# EAGLE library part DIL42 (library ic-package OPL4 10x20)
Dual In Line
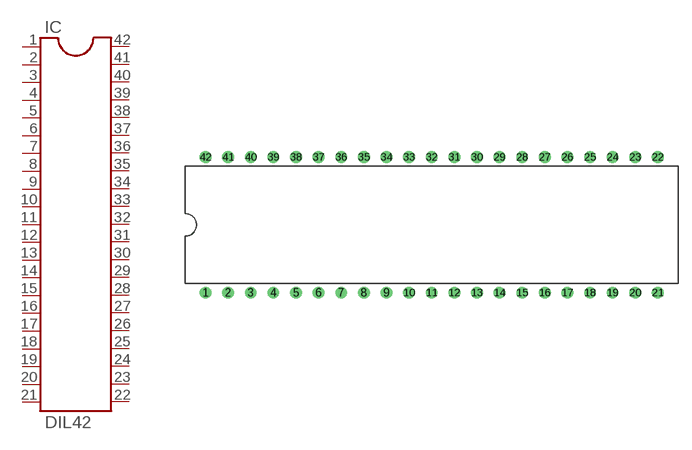
[diagram p17: symbol with the pads of DIL42; footprint DIL42]

Designator prefix IC

## DIL42  [DIL42]
1  MA19  pas
2  MA18  pas
3  MA8  pas
4  MA7  pas
5  MA6  pas
6  MA5  pas
7  MA4  pas
8  MA3  pas
9  MA2  pas
10  MA1  pas
11  MCS0  pas
12  VSS  pas
13  MRD  pas
14  MD0  pas
15  15  pas
16  MD1  pas
17  17  pas
18  MD2  pas
19  19  pas
20  MD3  pas
21  21  pas
22  VDD  pas
23  MD4  pas
24  24  pas
25  MD5  pas
26  26  pas
27  MD6  pas
28  28  pas
29  MD7  pas
30  MA0  pas
31  GND1  pas
32  GND  pas
33  MA17  pas
34  MA16  pas
35  MA15  pas
36  MA14  pas
37  MA13  pas
38  MA12  pas
39  MA11  pas
40  MA10  pas
41  MA9  pas
42  MA20  pas

## Footprint DIL42 (pad centres in mm)
Dual In Line Package
drill 0.813: 1 -25.4,-7.62; 2 -22.86,-7.62; 3 -20.32,-7.62; 4 -17.78,-7.62; 5 -15.24,-7.62; 6 -12.7,-7.62; 7 -10.16,-7.62; 8 -7.62,-7.62; 9 -5.08,-7.62; 10 -2.54,-7.62; 11 0,-7.62; 12 2.54,-7.62; 13 5.08,-7.62; 14 7.62,-7.62; 15 10.16,-7.62; 16 12.7,-7.62; 17 15.24,-7.62; 18 17.78,-7.62; 19 20.32,-7.62; 20 22.86,-7.62; 21 25.4,-7.62; 22 25.4,7.62; 23 22.86,7.62; 24 20.32,7.62; 25 17.78,7.62; 26 15.24,7.62; 27 12.7,7.62; 28 10.16,7.62; 29 7.62,7.62; 30 5.08,7.62; 31 2.54,7.62; 32 0,7.62; 33 -2.54,7.62; 34 -5.08,7.62; 35 -7.62,7.62; 36 -10.16,7.62; 37 -12.7,7.62; 38 -15.24,7.62; 39 -17.78,7.62; 40 -20.32,7.62; 41 -22.86,7.62; 42 -25.4,7.62